# Altium integrated library Linear Technology Power Management Switching Regulator LTC1174-LTC3901.IntLib: 2647 symbols (part 110 of 364)
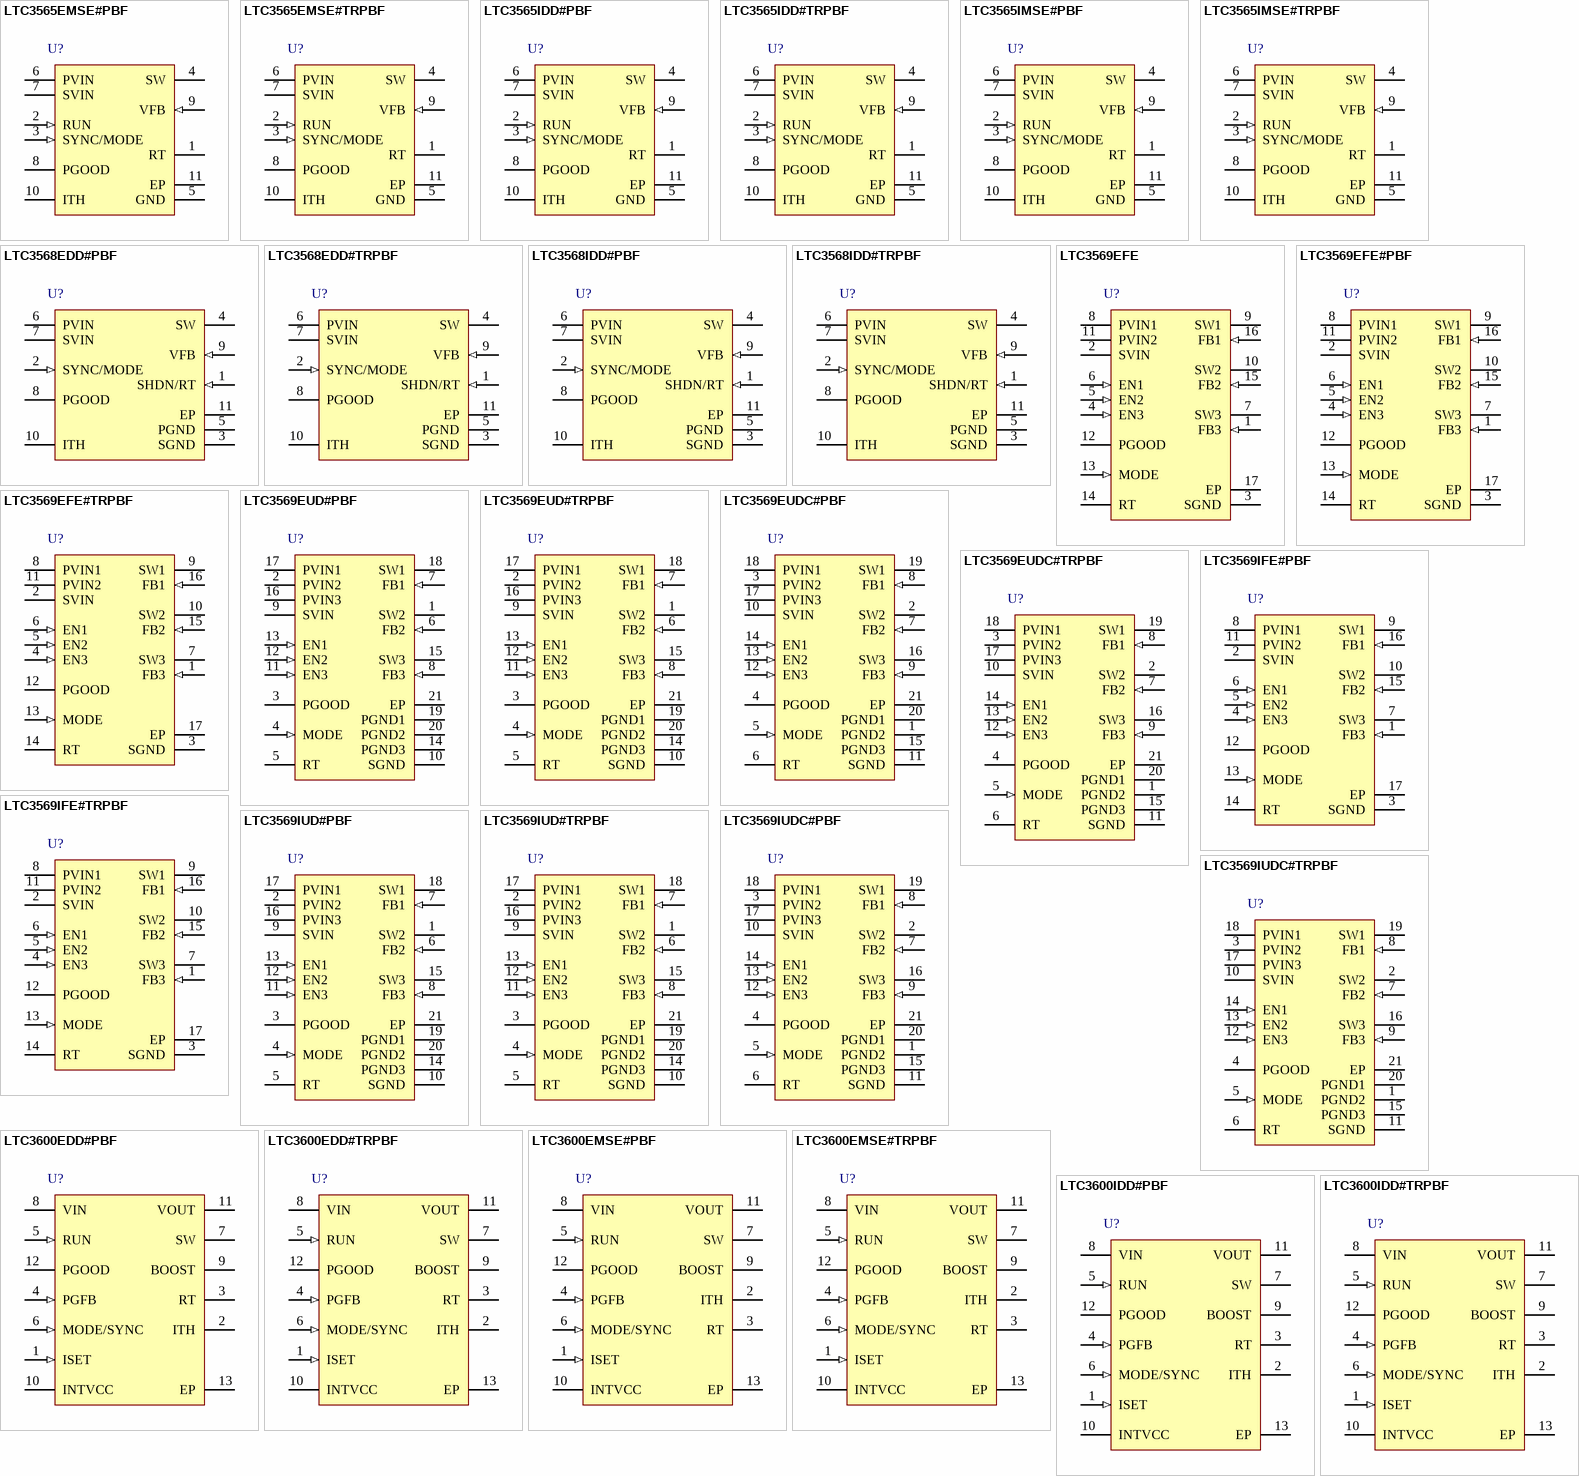
[diagram p171: symbols LTC3565EMSE#PBF to LTC3600IDD#TRPBF]

## LTC3569IUD#TRPBF
designator U?
Triple Buck Regulator with 1.2 A and Two 600 mA Outputs and Individual Programmable References, 20-pin QFN (UD-20), -40 to 125 degC, Pb-Free, Tape and Reel; Manufacturer: Linear Technology; PartNumber: LTC3569IUD#TRPBF; Frequency Adjust Range: 1MHz - 3MHz; Number of Outputs: 3; DatasheetVersion: Rev. D; PackageVersion: Rev. A, 06/2010; PackageReference: UD-20; PackageDescription: 20-Pin Plastic QFN, Body 3 x 3 mm, Pitch 0.4 mm; Supplier 1: Digi-Key; Supplier Part Number 1: LTC3569IUD#TRPBF-ND; Packing: Tape and Reel; RoHS: TRUE; Mounting Technology: Surface Mount; ComponentLink1Description: Manufacturer URL; ComponentLink1URL: http://www.linear.com/; ComponentLink2Description: Datasheet; ComponentLink2URL: http://cds.linear.com/docs/en/datasheet/3569fd.pdf; ComponentLink3Description: Package Specification; ComponentLink3URL: http://cds.linear.com/docs/en/packaging/QFN_20_05-08-1720.pdf
footprint LT-UD-20_N (QFN, 20-Leads, Body 3.1x3.1mm, Pitch 0.4mm, Thermal Pad 1.65x1.65mm, IPC Medium Density)
footprint LT-UD-20_L (QFN, 20-Leads, Body 3.1x3.1mm, Pitch 0.4mm, Thermal Pad 1.65x1.65mm, IPC High Density)
footprint LT-UD-20_M (QFN, 20-Leads, Body 3.1x3.1mm, Pitch 0.4mm, Thermal Pad 1.65x1.65mm, IPC Low Density)
pins: 1 SW2 (power) "Buck 2 Switch. Connect to the Inductor for Buck 2. This pin swings from PVIN2 to PGND2.", 2 PVIN2 (power) "Main Supply Pin for Buck 2. Decouple to PGND2 with a low ESR 4.7uF capacitor, CIN2. Decoupling capacitors should be summed where power supply pins are shared.", 3 PGOOD (oc) "The Power Good Pin. This open-drain output is released when an enabled output has risen to within 8% of the regulation voltage. When multiple outputs are enabled, PGOOD is the logical AND of each internal PGOOD.", 4 MODE (in) "Combination Mode Selection and Oscillator Synchronization Pin. This pin controls the operating mode of the device. When tied to SVIN, Burst Mode operation is selected. When tied to SGND, pulse-skipping mode is selected. The (See Datasheet)", 5 RT "Timing Resistor Pin. The free-running oscillator frequency is programmed by connecting a resistor from this pin to ground. Tie to SVIN to get a fixed 2.25MHz operating frequency.", 6 FB2 (in) "Receives the feedback voltage from the external resistive divider across the output of Buck 2. Nominal voltage for this pin is programmed with the EN2 pin from 800mV down to 425mV. When pulled to SVIN, Buck 2 is put into (See Datasheet)", 7 FB1 (in) "Receives the feedback voltage from the external resistive divider across the output of Buck 1. Nominal voltage for this pin is programmed with the EN1 pin from 800mV down to 425mV.", 8 FB3 (in) "Receives the feedback voltage from the external resistive divider across the output of Buck 3. Nominal voltage for this pin is programmed with the EN3 pin from 800mV down to 425mV. When pulled to SVIN, Buck 3 is put into (See Datasheet)", 9 SVIN (power) "Main Supply Pin. Decouple to SGND with a low ESR 1uF capacitor.", 10 SGND (power) "Main Ground Pin. Decouple to SVIN.", 11 EN3 (in) "Enable Pin for Buck 3. Toggle up to 15 times to program reference feedback level from 800mV down to 425mV", 12 EN2 (in) "Enable Pin for Buck 2. Toggle up to 15 times to program reference feedback level from 800mV down to 425mV.", 13 EN1 (in) "Enable Pin for Buck 1. Toggle up to 15 times to program reference feedback level from 800mV down to 425mV.", 14 PGND3 (power) "Main Power Ground Pin for Buck 3. Connect to the (-) terminal of the output capacitor for Buck3, and (-) terminal of CIN3. Decoupling capacitors should be summed where power supply pins are shared.", 15 SW3 (power) "Buck 3 Switch. Connect to the Inductor for Buck 3. This pin swings from PVIN3 to PGND3.", 16 PVIN3 (power) "Main Supply Pin for Buck 3. Decouple to PGND3 with a low ESR 4.7uF capacitor, CIN3. Decoupling capacitors should be summed where power supply pins are shared.", 17 PVIN1 (power) "Main Supply Pin for Buck 1. Decouple to PGND1 with a low ESR 4.7uF capacitor, CIN1. Decoupling capacitors should be summed where power supply pins are shared.", 18 SW1 (power) "Buck 1 Switch. Connect to the Inductor for Buck 1. This pin swings from PVIN1 to PGND1.", 19 PGND1 (power) "Main Power Ground Pin for Buck 1. Connect to the (-) terminal of the output capacitor for Buck1, and (-) terminal of CIN1. Decoupling capacitors should be summed where power supply pins are shared.", 20 PGND2 (power) "Main Power Ground Pin for Buck 2. Connect to the (-) terminal of the output capacitor for Buck2, and (-) terminal of CIN2. Decoupling capacitors should be summed where power supply pins are shared.", 21 EP (power) "The exposed pad must be connected to PCB ground for rated thermal performance and for electrical connection in the TSSOP package."

## LTC3569IUDC#PBF
designator U?
Triple Buck Regulator with 1.2 A and Two 600 mA Outputs and Individual Programmable References, 20-pin QFN (UDC-20), -40 to 125 degC, Pb-Free; Manufacturer: Linear Technology; PartNumber: LTC3569IUDC#PBF; Frequency Adjust Range: 1MHz - 3MHz; Number of Outputs: 3; DatasheetVersion: Rev. D; PackageVersion: Rev. Ø, 06/2010; PackageReference: UDC20; PackageDescription: 20-Pin Plastic QFN, Body 3 x 4 mm, Pitch 0.5 mm; Supplier 1: Digi-Key; Supplier Part Number 1: LTC3569IUDC#PBF-ND; RoHS: TRUE; Mounting Technology: Surface Mount; ComponentLink1Description: Manufacturer URL; ComponentLink1URL: http://www.linear.com/; ComponentLink2Description: Datasheet; ComponentLink2URL: http://cds.linear.com/docs/en/datasheet/3569fd.pdf; ComponentLink3Description: Package Specification; ComponentLink3URL: http://cds.linear.com/docs/en/packaging/QFN_20_05-08-1742.pdf
footprint LT-UDC-20_N (QFN, 20-Leads, Body 4.1x3.1mm, Pitch 0.5mm, Thermal Pad 2.65x1.65mm, IPC Medium Density)
footprint LT-UDC-20_L (QFN, 20-Leads, Body 4.1x3.1mm, Pitch 0.5mm, Thermal Pad 2.65x1.65mm, IPC High Density)
footprint LT-UDC-20_M (QFN, 20-Leads, Body 4.1x3.1mm, Pitch 0.5mm, Thermal Pad 2.65x1.65mm, IPC Low Density)
pins: 1 PGND2 (power) "Main Power Ground Pin for Buck 2. Connect to the (-) terminal of the output capacitor for Buck2, and (-) terminal of CIN2. Decoupling capacitors should be summed where power supply pins are shared.", 2 SW2 (power) "Buck 2 Switch. Connect to the Inductor for Buck 2. This pin swings from PVIN2 to PGND2.", 3 PVIN2 (power) "Main Supply Pin for Buck 2. Decouple to PGND2 with a low ESR 4.7uF capacitor, CIN2. Decoupling capacitors should be summed where power supply pins are shared.", 4 PGOOD (oc) "The Power Good Pin. This open-drain output is released when an enabled output has risen to within 8% of the regulation voltage. When multiple outputs are enabled, PGOOD is the logical AND of each internal PGOOD.", 5 MODE (in) "Combination Mode Selection and Oscillator Synchronization Pin. This pin controls the operating mode of the device. When tied to SVIN, Burst Mode operation is selected. When tied to SGND, pulse-skipping mode is selected. The (See Datasheet)", 6 RT "Timing Resistor Pin. The free-running oscillator frequency is programmed by connecting a resistor from this pin to ground. Tie to SVIN to get a fixed 2.25MHz operating frequency.", 7 FB2 (in) "Receives the feedback voltage from the external resistive divider across the output of Buck 2. Nominal voltage for this pin is programmed with the EN2 pin from 800mV down to 425mV. When pulled to SVIN, Buck 2 is put into (See Datasheet)", 8 FB1 (in) "Receives the feedback voltage from the external resistive divider across the output of Buck 1. Nominal voltage for this pin is programmed with the EN1 pin from 800mV down to 425mV.", 9 FB3 (in) "Receives the feedback voltage from the external resistive divider across the output of Buck 3. Nominal voltage for this pin is programmed with the EN3 pin from 800mV down to 425mV. When pulled to SVIN, Buck 3 is put into (See Datasheet)", 10 SVIN (power) "Main Supply Pin. Decouple to SGND with a low ESR 1uF capacitor.", 11 SGND (power) "Main Ground Pin. Decouple to SVIN.", 12 EN3 (in) "Enable Pin for Buck 3. Toggle up to 15 times to program reference feedback level from 800mV down to 425mV", 13 EN2 (in) "Enable Pin for Buck 2. Toggle up to 15 times to program reference feedback level from 800mV down to 425mV.", 14 EN1 (in) "Enable Pin for Buck 1. Toggle up to 15 times to program reference feedback level from 800mV down to 425mV.", 15 PGND3 (power) "Main Power Ground Pin for Buck 3. Connect to the (-) terminal of the output capacitor for Buck3, and (-) terminal of CIN3. Decoupling capacitors should be summed where power supply pins are shared.", 16 SW3 (power) "Buck 3 Switch. Connect to the Inductor for Buck 3. This pin swings from PVIN3 to PGND3.", 17 PVIN3 (power) "Main Supply Pin for Buck 3. Decouple to PGND3 with a low ESR 4.7uF capacitor, CIN3. Decoupling capacitors should be summed where power supply pins are shared.", 18 PVIN1 (power) "Main Supply Pin for Buck 1. Decouple to PGND1 with a low ESR 4.7uF capacitor, CIN1. Decoupling capacitors should be summed where power supply pins are shared.", 19 SW1 (power) "Buck 1 Switch. Connect to the Inductor for Buck 1. This pin swings from PVIN1 to PGND1.", 20 PGND1 (power) "Main Power Ground Pin for Buck 1. Connect to the (-) terminal of the output capacitor for Buck1, and (-) terminal of CIN1. Decoupling capacitors should be summed where power supply pins are shared.", 21 EP (power) "The exposed pad must be connected to PCB ground for rated thermal performance and for electrical connection in the TSSOP package."

## LTC3569IUDC#TRPBF
designator U?
Triple Buck Regulator with 1.2 A and Two 600 mA Outputs and Individual Programmable References, 20-pin QFN (UDC-20), -40 to 125 degC, Pb-Free, Tape and Reel; Manufacturer: Linear Technology; PartNumber: LTC3569IUDC#TRPBF; Frequency Adjust Range: 1MHz - 3MHz; Number of Outputs: 3; DatasheetVersion: Rev. D; PackageVersion: Rev. Ø, 06/2010; PackageReference: UDC20; PackageDescription: 20-Pin Plastic QFN, Body 3 x 4 mm, Pitch 0.5 mm; Supplier 1: Digi-Key; Supplier Part Number 1: LTC3569IUDC#TRPBF-ND; Packing: Tape and Reel; RoHS: TRUE; Mounting Technology: Surface Mount; ComponentLink1Description: Manufacturer URL; ComponentLink1URL: http://www.linear.com/; ComponentLink2Description: Datasheet; ComponentLink2URL: http://cds.linear.com/docs/en/datasheet/3569fd.pdf; ComponentLink3Description: Package Specification; ComponentLink3URL: http://cds.linear.com/docs/en/packaging/QFN_20_05-08-1742.pdf
footprint LT-UDC-20_N (QFN, 20-Leads, Body 4.1x3.1mm, Pitch 0.5mm, Thermal Pad 2.65x1.65mm, IPC Medium Density)
footprint LT-UDC-20_L (QFN, 20-Leads, Body 4.1x3.1mm, Pitch 0.5mm, Thermal Pad 2.65x1.65mm, IPC High Density)
footprint LT-UDC-20_M (QFN, 20-Leads, Body 4.1x3.1mm, Pitch 0.5mm, Thermal Pad 2.65x1.65mm, IPC Low Density)
pins: 1 PGND2 (power) "Main Power Ground Pin for Buck 2. Connect to the (-) terminal of the output capacitor for Buck2, and (-) terminal of CIN2. Decoupling capacitors should be summed where power supply pins are shared.", 2 SW2 (power) "Buck 2 Switch. Connect to the Inductor for Buck 2. This pin swings from PVIN2 to PGND2.", 3 PVIN2 (power) "Main Supply Pin for Buck 2. Decouple to PGND2 with a low ESR 4.7uF capacitor, CIN2. Decoupling capacitors should be summed where power supply pins are shared.", 4 PGOOD (oc) "The Power Good Pin. This open-drain output is released when an enabled output has risen to within 8% of the regulation voltage. When multiple outputs are enabled, PGOOD is the logical AND of each internal PGOOD.", 5 MODE (in) "Combination Mode Selection and Oscillator Synchronization Pin. This pin controls the operating mode of the device. When tied to SVIN, Burst Mode operation is selected. When tied to SGND, pulse-skipping mode is selected. The (See Datasheet)", 6 RT "Timing Resistor Pin. The free-running oscillator frequency is programmed by connecting a resistor from this pin to ground. Tie to SVIN to get a fixed 2.25MHz operating frequency.", 7 FB2 (in) "Receives the feedback voltage from the external resistive divider across the output of Buck 2. Nominal voltage for this pin is programmed with the EN2 pin from 800mV down to 425mV. When pulled to SVIN, Buck 2 is put into (See Datasheet)", 8 FB1 (in) "Receives the feedback voltage from the external resistive divider across the output of Buck 1. Nominal voltage for this pin is programmed with the EN1 pin from 800mV down to 425mV.", 9 FB3 (in) "Receives the feedback voltage from the external resistive divider across the output of Buck 3. Nominal voltage for this pin is programmed with the EN3 pin from 800mV down to 425mV. When pulled to SVIN, Buck 3 is put into (See Datasheet)", 10 SVIN (power) "Main Supply Pin. Decouple to SGND with a low ESR 1uF capacitor.", 11 SGND (power) "Main Ground Pin. Decouple to SVIN.", 12 EN3 (in) "Enable Pin for Buck 3. Toggle up to 15 times to program reference feedback level from 800mV down to 425mV", 13 EN2 (in) "Enable Pin for Buck 2. Toggle up to 15 times to program reference feedback level from 800mV down to 425mV.", 14 EN1 (in) "Enable Pin for Buck 1. Toggle up to 15 times to program reference feedback level from 800mV down to 425mV.", 15 PGND3 (power) "Main Power Ground Pin for Buck 3. Connect to the (-) terminal of the output capacitor for Buck3, and (-) terminal of CIN3. Decoupling capacitors should be summed where power supply pins are shared.", 16 SW3 (power) "Buck 3 Switch. Connect to the Inductor for Buck 3. This pin swings from PVIN3 to PGND3.", 17 PVIN3 (power) "Main Supply Pin for Buck 3. Decouple to PGND3 with a low ESR 4.7uF capacitor, CIN3. Decoupling capacitors should be summed where power supply pins are shared.", 18 PVIN1 (power) "Main Supply Pin for Buck 1. Decouple to PGND1 with a low ESR 4.7uF capacitor, CIN1. Decoupling capacitors should be summed where power supply pins are shared.", 19 SW1 (power) "Buck 1 Switch. Connect to the Inductor for Buck 1. This pin swings from PVIN1 to PGND1.", 20 PGND1 (power) "Main Power Ground Pin for Buck 1. Connect to the (-) terminal of the output capacitor for Buck1, and (-) terminal of CIN1. Decoupling capacitors should be summed where power supply pins are shared.", 21 EP (power) "The exposed pad must be connected to PCB ground for rated thermal performance and for electrical connection in the TSSOP package."

## LTC3600EDD#PBF
designator U?
1.5 A Synchronous Rail-to-Rail Single Resistor Step-Down Regulator, 12-pin SON (DD-12), -40 to 125 degC, Pb-Free; Manufacturer: Linear Technology; PartNumber: LTC3600EDD#PBF; Frequency Adjust Range: 200kHz - 4MHz; Number of Outputs: 1; DatasheetVersion: Rev. C; PackageVersion: Rev. A, 06/2010; PackageReference: DD-12; PackageDescription: 12-Pin Plastic DFN, Body 3 x 3 mm, Pitch 0.45 mm; Supplier 1: Digi-Key; Supplier Part Number 1: LTC3600EDD#PBF-ND; Supplier 2: Newark; Supplier Part Number 2: 78T3222; RoHS: TRUE; Mounting Technology: Surface Mount; ComponentLink1Description: Manufacturer URL; ComponentLink1URL: http://www.linear.com/; ComponentLink2Description: Datasheet; ComponentLink2URL: http://cds.linear.com/docs/en/datasheet/3600fc.pdf; ComponentLink3Description: Package Specification; ComponentLink3URL: http://cds.linear.com/docs/en/packaging/DFN_12_05-08-1725.pdf
footprint LT-DD-12_V (SON, 12-Leads, Body 3x3mm, Pitch 0.45mm, Thermal Pad 2.38x1.65mm)
pins: 1 ISET (in) "Accurate 50uA Current Source. Positive input to the error amplifier. Connect an external resistor from this pin to signal GND to program the VOUT voltage. Connecting an external capacitor from ISET to ground will soft start (See Datasheet)", 2 ITH "Error Amplifier Output and Switching Regulator Compensation Point. The internal current comparator’s trip threshold is linearly proportional to this voltage, whose normal range is from 0.3V to 2.4V. For externa(See Datasheet)", 3 RT "Switching Frequency Programming Pin. Connect an external resistor (between 200k to 10k) from RT to SGND to program the frequency from 200kHz to 4MHz. Tying the RT pin to INTVCC programs 1MHz operation. Do not float the RT (See Datasheet)", 4 PGFB (in) "Power Good Feedback. Place a resistor divider on VOUT to detect power good level. If PGFB is more than 0.645V, or less than 0.555V, PGOOD will be pulled down. Tie PGFB to INTVCC to disable the PGOOD function. Tying PGFB to a (See Datasheet)", 5 RUN (in) "Run Control Input. Enables chip operation by tying RUN above 1.55V. Tying it below 1V shuts down the switching regulator. Tying it below 0.4V shuts off the entire chip. When tying RUN to more than 12V, place a resistor (100k (See Datasheet)", 6 MODE/SYNC (in) "Operation Mode Select. Tie this pin to INTVCC to force continuous synchronous operation at all output loads. Tying it to GND enables discontinuous mode operation at light loads. Applying an external clock signal to this pin (See Datasheet)", 7 SW (power) "Switch Node Connection to External Inductor. Voltage swing of SW is from a diode voltage drop below ground to VIN.", 8 VIN (power) "Input voltage. Must decouple to GND with a capacitor close to the VIN pin.", 9 BOOST "Boosted Floating Driver Supply for Internal Top Power MOSFET. The (+) terminal of the bootstrap capacitor connects here. This pin swings from a diode voltage drop below INTVCC up to VIN + INTVCC.", 10 INTVCC (power) "Internal 5V Regulator Output. The internal power drivers and control circuits are powered from this voltage. Decouple this pin to GND with a minimum of 1uF low ESR ceramic capacitor.", 11 VOUT (power) "Output Voltage Pin. Output of the LTC3600 voltage regulator. Also the negative input of the error amplifier which is driven to be the same voltage as ISET.", 12 PGOOD (oc) "Output Power Good with Open-Drain Logic. PGOOD is pulled to ground when the PGFB pin is more than 0.645V or less than 0.555V. PGOOD open-drain logic will be disabled if PGFB is tied to INTVCC.", 13 EP (power) "Ground. Return path of internal power MOSFETs. Connect the exposed pad to the negative terminal of the input capacitor and output capacitor."

## LTC3600EDD#TRPBF
designator U?
1.5 A Synchronous Rail-to-Rail Single Resistor Step-Down Regulator, 12-pin SON (DD-12), -40 to 125 degC, Pb-Free, Tape and Reel; Manufacturer: Linear Technology; PartNumber: LTC3600EDD#TRPBF; Frequency Adjust Range: 200kHz - 4MHz; Number of Outputs: 1; DatasheetVersion: Rev. C; PackageVersion: Rev. A, 06/2010; PackageReference: DD-12; PackageDescription: 12-Pin Plastic DFN, Body 3 x 3 mm, Pitch 0.45 mm; Supplier 1: Digi-Key; Supplier Part Number 1: LTC3600EDD#TRPBF-ND; Supplier 2: Newark; Supplier Part Number 2: 78T3223; Packing: Tape and Reel; RoHS: TRUE; Mounting Technology: Surface Mount; ComponentLink1Description: Manufacturer URL; ComponentLink1URL: http://www.linear.com/; ComponentLink2Description: Datasheet; ComponentLink2URL: http://cds.linear.com/docs/en/datasheet/3600fc.pdf; ComponentLink3Description: Package Specification; ComponentLink3URL: http://cds.linear.com/docs/en/packaging/DFN_12_05-08-1725.pdf
footprint LT-DD-12_V (SON, 12-Leads, Body 3x3mm, Pitch 0.45mm, Thermal Pad 2.38x1.65mm)
pins: 1 ISET (in) "Accurate 50uA Current Source. Positive input to the error amplifier. Connect an external resistor from this pin to signal GND to program the VOUT voltage. Connecting an external capacitor from ISET to ground will soft start (See Datasheet)", 2 ITH "Error Amplifier Output and Switching Regulator Compensation Point. The internal current comparator’s trip threshold is linearly proportional to this voltage, whose normal range is from 0.3V to 2.4V. For externa(See Datasheet)", 3 RT "Switching Frequency Programming Pin. Connect an external resistor (between 200k to 10k) from RT to SGND to program the frequency from 200kHz to 4MHz. Tying the RT pin to INTVCC programs 1MHz operation. Do not float the RT (See Datasheet)", 4 PGFB (in) "Power Good Feedback. Place a resistor divider on VOUT to detect power good level. If PGFB is more than 0.645V, or less than 0.555V, PGOOD will be pulled down. Tie PGFB to INTVCC to disable the PGOOD function. Tying PGFB to a (See Datasheet)", 5 RUN (in) "Run Control Input. Enables chip operation by tying RUN above 1.55V. Tying it below 1V shuts down the switching regulator. Tying it below 0.4V shuts off the entire chip. When tying RUN to more than 12V, place a resistor (100k (See Datasheet)", 6 MODE/SYNC (in) "Operation Mode Select. Tie this pin to INTVCC to force continuous synchronous operation at all output loads. Tying it to GND enables discontinuous mode operation at light loads. Applying an external clock signal to this pin (See Datasheet)", 7 SW (power) "Switch Node Connection to External Inductor. Voltage swing of SW is from a diode voltage drop below ground to VIN.", 8 VIN (power) "Input voltage. Must decouple to GND with a capacitor close to the VIN pin.", 9 BOOST "Boosted Floating Driver Supply for Internal Top Power MOSFET. The (+) terminal of the bootstrap capacitor connects here. This pin swings from a diode voltage drop below INTVCC up to VIN + INTVCC.", 10 INTVCC (power) "Internal 5V Regulator Output. The internal power drivers and control circuits are powered from this voltage. Decouple this pin to GND with a minimum of 1uF low ESR ceramic capacitor.", 11 VOUT (power) "Output Voltage Pin. Output of the LTC3600 voltage regulator. Also the negative input of the error amplifier which is driven to be the same voltage as ISET.", 12 PGOOD (oc) "Output Power Good with Open-Drain Logic. PGOOD is pulled to ground when the PGFB pin is more than 0.645V or less than 0.555V. PGOOD open-drain logic will be disabled if PGFB is tied to INTVCC.", 13 EP (power) "Ground. Return path of internal power MOSFETs. Connect the exposed pad to the negative terminal of the input capacitor and output capacitor."

## LTC3600EMSE#PBF
designator U?
1.5 A Synchronous Rail-to-Rail Single Resistor Step-Down Regulator, 12-pin SOP (MSE-12-EDP), -40 to 125 degC, Pb-Free; Manufacturer: Linear Technology; PartNumber: LTC3600EMSE#PBF; Frequency Adjust Range: 200kHz - 4MHz; Number of Outputs: 1; DatasheetVersion: Rev. C; PackageVersion: Rev. G, 05/2013; PackageReference: MSE-12-EDP; PackageDescription: 12-Pin Plastic MSOP, Exposed Die Pad, Body 4.039 x 3 mm, Pitch 0.65 mm; Supplier 1: Digi-Key; Supplier Part Number 1: LTC3600EMSE#PBF-ND; Supplier 2: Farnell; Supplier Part Number 2: 2097890; Supplier 3: Newark; Supplier Part Number 3: 78T3224; RoHS: TRUE; Mounting Technology: Surface Mount; ComponentLink1Description: Manufacturer URL; ComponentLink1URL: http://www.linear.com/; ComponentLink2Description: Datasheet; ComponentLink2URL: http://cds.linear.com/docs/en/datasheet/3600fc.pdf; ComponentLink3Description: Package Specification; ComponentLink3URL: http://cds.linear.com/docs/en/packaging/05081666_G_MSE12.pdf
footprint LT-MSE-12-EDP_N (SOP, 12-Leads, Body 4.1x3.1mm, Pitch 0.65mm, Thermal Pad 2.95x1.76mm, IPC Medium Density)
footprint LT-MSE-12-EDP_L (SOP, 12-Leads, Body 4.1x3.1mm, Pitch 0.65mm, Thermal Pad 2.95x1.76mm, IPC High Density)
footprint LT-MSE-12-EDP_M (SOP, 12-Leads, Body 4.1x3.1mm, Pitch 0.65mm, Thermal Pad 2.95x1.76mm, IPC Low Density)
pins: 1 ISET (in) "Accurate 50uA Current Source. Positive input to the error amplifier. Connect an external resistor from this pin to signal GND to program the VOUT voltage. Connecting an external capacitor from ISET to ground will soft start (See Datasheet)", 2 ITH "Error Amplifier Output and Switching Regulator Compensation Point. The internal current comparator’s trip threshold is linearly proportional to this voltage, whose normal range is from 0.3V to 2.4V. For externa(See Datasheet)", 3 RT "Switching Frequency Programming Pin. Connect an external resistor (between 200k to 10k) from RT to SGND to program the frequency from 200kHz to 4MHz. Tying the RT pin to INTVCC programs 1MHz operation. Do not float the RT (See Datasheet)", 4 PGFB (in) "Power Good Feedback. Place a resistor divider on VOUT to detect power good level. If PGFB is more than 0.645V, or less than 0.555V, PGOOD will be pulled down. Tie PGFB to INTVCC to disable the PGOOD function. Tying PGFB to a (See Datasheet)", 5 RUN (in) "Run Control Input. Enables chip operation by tying RUN above 1.55V. Tying it below 1V shuts down the switching regulator. Tying it below 0.4V shuts off the entire chip. When tying RUN to more than 12V, place a resistor (100k (See Datasheet)", 6 MODE/SYNC (in) "Operation Mode Select. Tie this pin to INTVCC to force continuous synchronous operation at all output loads. Tying it to GND enables discontinuous mode operation at light loads. Applying an external clock signal to this pin (See Datasheet)", 7 SW (power) "Switch Node Connection to External Inductor. Voltage swing of SW is from a diode voltage drop below ground to VIN.", 8 VIN (power) "Input voltage. Must decouple to GND with a capacitor close to the VIN pin.", 9 BOOST "Boosted Floating Driver Supply for Internal Top Power MOSFET. The (+) terminal of the bootstrap capacitor connects here. This pin swings from a diode voltage drop below INTVCC up to VIN + INTVCC.", 10 INTVCC (power) "Internal 5V Regulator Output. The internal power drivers and control circuits are powered from this voltage. Decouple this pin to GND with a minimum of 1uF low ESR ceramic capacitor.", 11 VOUT (power) "Output Voltage Pin. Output of the LTC3600 voltage regulator. Also the negative input of the error amplifier which is driven to be the same voltage as ISET.", 12 PGOOD (oc) "Output Power Good with Open-Drain Logic. PGOOD is pulled to ground when the PGFB pin is more than 0.645V or less than 0.555V. PGOOD open-drain logic will be disabled if PGFB is tied to INTVCC.", 13 EP (power) "Ground. Return path of internal power MOSFETs. Connect the exposed pad to the negative terminal of the input capacitor and output capacitor."

## LTC3600EMSE#TRPBF
designator U?
1.5 A Synchronous Rail-to-Rail Single Resistor Step-Down Regulator, 12-pin SOP (MSE-12-EDP), -40 to 125 degC, Pb-Free, Tape and Reel; Manufacturer: Linear Technology; PartNumber: LTC3600EMSE#TRPBF; Frequency Adjust Range: 200kHz - 4MHz; Number of Outputs: 1; DatasheetVersion: Rev. C; PackageVersion: Rev. G, 05/2013; PackageReference: MSE-12-EDP; PackageDescription: 12-Pin Plastic MSOP, Exposed Die Pad, Body 4.039 x 3 mm, Pitch 0.65 mm; Supplier 1: Digi-Key; Supplier Part Number 1: LTC3600EMSE#TRPBF-ND; Packing: Tape and Reel; RoHS: TRUE; Mounting Technology: Surface Mount; ComponentLink1Description: Manufacturer URL; ComponentLink1URL: http://www.linear.com/; ComponentLink2Description: Datasheet; ComponentLink2URL: http://cds.linear.com/docs/en/datasheet/3600fc.pdf; ComponentLink3Description: Package Specification; ComponentLink3URL: http://cds.linear.com/docs/en/packaging/05081666_G_MSE12.pdf
footprint LT-MSE-12-EDP_N (SOP, 12-Leads, Body 4.1x3.1mm, Pitch 0.65mm, Thermal Pad 2.95x1.76mm, IPC Medium Density)
footprint LT-MSE-12-EDP_L (SOP, 12-Leads, Body 4.1x3.1mm, Pitch 0.65mm, Thermal Pad 2.95x1.76mm, IPC High Density)
footprint LT-MSE-12-EDP_M (SOP, 12-Leads, Body 4.1x3.1mm, Pitch 0.65mm, Thermal Pad 2.95x1.76mm, IPC Low Density)
pins: 1 ISET (in) "Accurate 50uA Current Source. Positive input to the error amplifier. Connect an external resistor from this pin to signal GND to program the VOUT voltage. Connecting an external capacitor from ISET to ground will soft start (See Datasheet)", 2 ITH "Error Amplifier Output and Switching Regulator Compensation Point. The internal current comparator’s trip threshold is linearly proportional to this voltage, whose normal range is from 0.3V to 2.4V. For externa(See Datasheet)", 3 RT "Switching Frequency Programming Pin. Connect an external resistor (between 200k to 10k) from RT to SGND to program the frequency from 200kHz to 4MHz. Tying the RT pin to INTVCC programs 1MHz operation. Do not float the RT (See Datasheet)", 4 PGFB (in) "Power Good Feedback. Place a resistor divider on VOUT to detect power good level. If PGFB is more than 0.645V, or less than 0.555V, PGOOD will be pulled down. Tie PGFB to INTVCC to disable the PGOOD function. Tying PGFB to a (See Datasheet)", 5 RUN (in) "Run Control Input. Enables chip operation by tying RUN above 1.55V. Tying it below 1V shuts down the switching regulator. Tying it below 0.4V shuts off the entire chip. When tying RUN to more than 12V, place a resistor (100k (See Datasheet)", 6 MODE/SYNC (in) "Operation Mode Select. Tie this pin to INTVCC to force continuous synchronous operation at all output loads. Tying it to GND enables discontinuous mode operation at light loads. Applying an external clock signal to this pin (See Datasheet)", 7 SW (power) "Switch Node Connection to External Inductor. Voltage swing of SW is from a diode voltage drop below ground to VIN.", 8 VIN (power) "Input voltage. Must decouple to GND with a capacitor close to the VIN pin.", 9 BOOST "Boosted Floating Driver Supply for Internal Top Power MOSFET. The (+) terminal of the bootstrap capacitor connects here. This pin swings from a diode voltage drop below INTVCC up to VIN + INTVCC.", 10 INTVCC (power) "Internal 5V Regulator Output. The internal power drivers and control circuits are powered from this voltage. Decouple this pin to GND with a minimum of 1uF low ESR ceramic capacitor.", 11 VOUT (power) "Output Voltage Pin. Output of the LTC3600 voltage regulator. Also the negative input of the error amplifier which is driven to be the same voltage as ISET.", 12 PGOOD (oc) "Output Power Good with Open-Drain Logic. PGOOD is pulled to ground when the PGFB pin is more than 0.645V or less than 0.555V. PGOOD open-drain logic will be disabled if PGFB is tied to INTVCC.", 13 EP (power) "Ground. Return path of internal power MOSFETs. Connect the exposed pad to the negative terminal of the input capacitor and output capacitor."

## LTC3600IDD#PBF
designator U?
1.5 A Synchronous Rail-to-Rail Single Resistor Step-Down Regulator, 12-pin SON (DD-12), -40 to 125 degC, Pb-Free; Manufacturer: Linear Technology; PartNumber: LTC3600IDD#PBF; Frequency Adjust Range: 200kHz - 4MHz; Number of Outputs: 1; DatasheetVersion: Rev. C; PackageVersion: Rev. A, 06/2010; PackageReference: DD-12; PackageDescription: 12-Pin Plastic DFN, Body 3 x 3 mm, Pitch 0.45 mm; Supplier 1: Digi-Key; Supplier Part Number 1: LTC3600IDD#PBF-ND; Supplier 2: Farnell; Supplier Part Number 2: 2097889; Supplier 3: Newark; Supplier Part Number 3: 78T3226; RoHS: TRUE; Mounting Technology: Surface Mount; ComponentLink1Description: Manufacturer URL; ComponentLink1URL: http://www.linear.com/; ComponentLink2Description: Datasheet; ComponentLink2URL: http://cds.linear.com/docs/en/datasheet/3600fc.pdf; ComponentLink3Description: Package Specification; ComponentLink3URL: http://cds.linear.com/docs/en/packaging/DFN_12_05-08-1725.pdf
footprint LT-DD-12_V (SON, 12-Leads, Body 3x3mm, Pitch 0.45mm, Thermal Pad 2.38x1.65mm)
pins: 1 ISET (in) "Accurate 50uA Current Source. Positive input to the error amplifier. Connect an external resistor from this pin to signal GND to program the VOUT voltage. Connecting an external capacitor from ISET to ground will soft start (See Datasheet)", 2 ITH "Error Amplifier Output and Switching Regulator Compensation Point. The internal current comparator’s trip threshold is linearly proportional to this voltage, whose normal range is from 0.3V to 2.4V. For externa(See Datasheet)", 3 RT "Switching Frequency Programming Pin. Connect an external resistor (between 200k to 10k) from RT to SGND to program the frequency from 200kHz to 4MHz. Tying the RT pin to INTVCC programs 1MHz operation. Do not float the RT (See Datasheet)", 4 PGFB (in) "Power Good Feedback. Place a resistor divider on VOUT to detect power good level. If PGFB is more than 0.645V, or less than 0.555V, PGOOD will be pulled down. Tie PGFB to INTVCC to disable the PGOOD function. Tying PGFB to a (See Datasheet)", 5 RUN (in) "Run Control Input. Enables chip operation by tying RUN above 1.55V. Tying it below 1V shuts down the switching regulator. Tying it below 0.4V shuts off the entire chip. When tying RUN to more than 12V, place a resistor (100k (See Datasheet)", 6 MODE/SYNC (in) "Operation Mode Select. Tie this pin to INTVCC to force continuous synchronous operation at all output loads. Tying it to GND enables discontinuous mode operation at light loads. Applying an external clock signal to this pin (See Datasheet)", 7 SW (power) "Switch Node Connection to External Inductor. Voltage swing of SW is from a diode voltage drop below ground to VIN.", 8 VIN (power) "Input voltage. Must decouple to GND with a capacitor close to the VIN pin.", 9 BOOST "Boosted Floating Driver Supply for Internal Top Power MOSFET. The (+) terminal of the bootstrap capacitor connects here. This pin swings from a diode voltage drop below INTVCC up to VIN + INTVCC.", 10 INTVCC (power) "Internal 5V Regulator Output. The internal power drivers and control circuits are powered from this voltage. Decouple this pin to GND with a minimum of 1uF low ESR ceramic capacitor.", 11 VOUT (power) "Output Voltage Pin. Output of the LTC3600 voltage regulator. Also the negative input of the error amplifier which is driven to be the same voltage as ISET.", 12 PGOOD (oc) "Output Power Good with Open-Drain Logic. PGOOD is pulled to ground when the PGFB pin is more than 0.645V or less than 0.555V. PGOOD open-drain logic will be disabled if PGFB is tied to INTVCC.", 13 EP (power) "Ground. Return path of internal power MOSFETs. Connect the exposed pad to the negative terminal of the input capacitor and output capacitor."

## LTC3600IDD#TRPBF
designator U?
1.5 A Synchronous Rail-to-Rail Single Resistor Step-Down Regulator, 12-pin SON (DD-12), -40 to 125 degC, Pb-Free, Tape and Reel; Manufacturer: Linear Technology; PartNumber: LTC3600IDD#TRPBF; Frequency Adjust Range: 200kHz - 4MHz; Number of Outputs: 1; DatasheetVersion: Rev. C; PackageVersion: Rev. A, 06/2010; PackageReference: DD-12; PackageDescription: 12-Pin Plastic DFN, Body 3 x 3 mm, Pitch 0.45 mm; Supplier 1: Digi-Key; Supplier Part Number 1: LTC3600IDD#TRPBF-ND; Packing: Tape and Reel; RoHS: TRUE; Mounting Technology: Surface Mount; ComponentLink1Description: Manufacturer URL; ComponentLink1URL: http://www.linear.com/; ComponentLink2Description: Datasheet; ComponentLink2URL: http://cds.linear.com/docs/en/datasheet/3600fc.pdf; ComponentLink3Description: Package Specification; ComponentLink3URL: http://cds.linear.com/docs/en/packaging/DFN_12_05-08-1725.pdf
footprint LT-DD-12_V (SON, 12-Leads, Body 3x3mm, Pitch 0.45mm, Thermal Pad 2.38x1.65mm)
pins: 1 ISET (in) "Accurate 50uA Current Source. Positive input to the error amplifier. Connect an external resistor from this pin to signal GND to program the VOUT voltage. Connecting an external capacitor from ISET to ground will soft start (See Datasheet)", 2 ITH "Error Amplifier Output and Switching Regulator Compensation Point. The internal current comparator’s trip threshold is linearly proportional to this voltage, whose normal range is from 0.3V to 2.4V. For externa(See Datasheet)", 3 RT "Switching Frequency Programming Pin. Connect an external resistor (between 200k to 10k) from RT to SGND to program the frequency from 200kHz to 4MHz. Tying the RT pin to INTVCC programs 1MHz operation. Do not float the RT (See Datasheet)", 4 PGFB (in) "Power Good Feedback. Place a resistor divider on VOUT to detect power good level. If PGFB is more than 0.645V, or less than 0.555V, PGOOD will be pulled down. Tie PGFB to INTVCC to disable the PGOOD function. Tying PGFB to a (See Datasheet)", 5 RUN (in) "Run Control Input. Enables chip operation by tying RUN above 1.55V. Tying it below 1V shuts down the switching regulator. Tying it below 0.4V shuts off the entire chip. When tying RUN to more than 12V, place a resistor (100k (See Datasheet)", 6 MODE/SYNC (in) "Operation Mode Select. Tie this pin to INTVCC to force continuous synchronous operation at all output loads. Tying it to GND enables discontinuous mode operation at light loads. Applying an external clock signal to this pin (See Datasheet)", 7 SW (power) "Switch Node Connection to External Inductor. Voltage swing of SW is from a diode voltage drop below ground to VIN.", 8 VIN (power) "Input voltage. Must decouple to GND with a capacitor close to the VIN pin.", 9 BOOST "Boosted Floating Driver Supply for Internal Top Power MOSFET. The (+) terminal of the bootstrap capacitor connects here. This pin swings from a diode voltage drop below INTVCC up to VIN + INTVCC.", 10 INTVCC (power) "Internal 5V Regulator Output. The internal power drivers and control circuits are powered from this voltage. Decouple this pin to GND with a minimum of 1uF low ESR ceramic capacitor.", 11 VOUT (power) "Output Voltage Pin. Output of the LTC3600 voltage regulator. Also the negative input of the error amplifier which is driven to be the same voltage as ISET.", 12 PGOOD (oc) "Output Power Good with Open-Drain Logic. PGOOD is pulled to ground when the PGFB pin is more than 0.645V or less than 0.555V. PGOOD open-drain logic will be disabled if PGFB is tied to INTVCC.", 13 EP (power) "Ground. Return path of internal power MOSFETs. Connect the exposed pad to the negative terminal of the input capacitor and output capacitor."

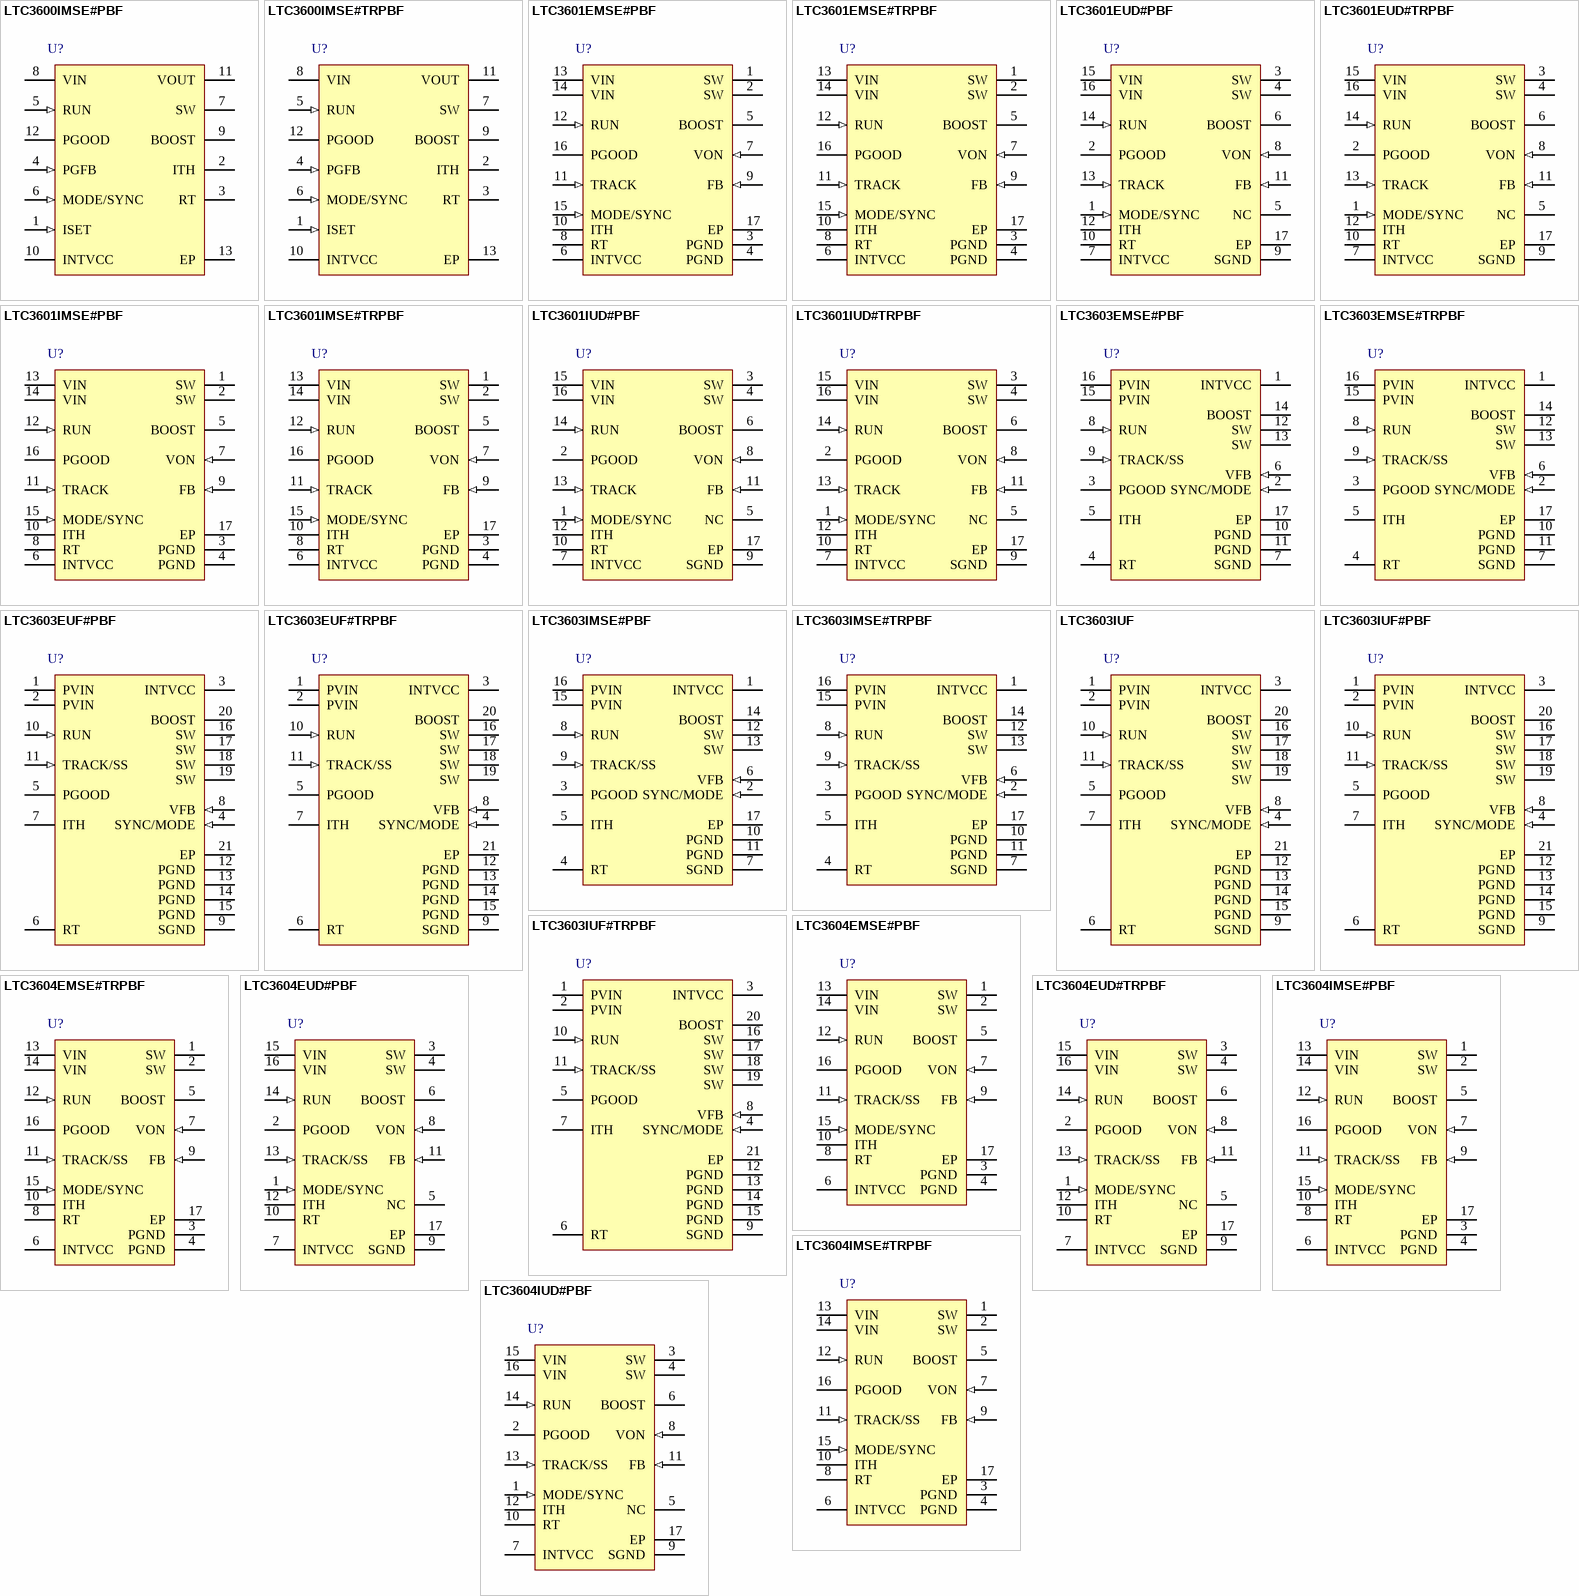
[diagram p36: symbols LTC3600IMSE#PBF to LTC3604IUD#PBF]

## LTC3600IMSE#PBF
designator U?
1.5 A Synchronous Rail-to-Rail Single Resistor Step-Down Regulator, 12-pin SOP (MSE-12-EDP), -40 to 125 degC, Pb-Free; Manufacturer: Linear Technology; PartNumber: LTC3600IMSE#PBF; Frequency Adjust Range: 200kHz - 4MHz; Number of Outputs: 1; DatasheetVersion: Rev. C; PackageVersion: Rev. G, 05/2013; PackageReference: MSE-12-EDP; PackageDescription: 12-Pin Plastic MSOP, Exposed Die Pad, Body 4.039 x 3 mm, Pitch 0.65 mm; Supplier 1: Digi-Key; Supplier Part Number 1: LTC3600IMSE#PBF-ND; Supplier 2: Farnell; Supplier Part Number 2: 2095781; Supplier 3: Newark; Supplier Part Number 3: 78T3228; RoHS: TRUE; Mounting Technology: Surface Mount; ComponentLink1Description: Manufacturer URL; ComponentLink1URL: http://www.linear.com/; ComponentLink2Description: Datasheet; ComponentLink2URL: http://cds.linear.com/docs/en/datasheet/3600fc.pdf; ComponentLink3Description: Package Specification; ComponentLink3URL: http://cds.linear.com/docs/en/packaging/05081666_G_MSE12.pdf
footprint LT-MSE-12-EDP_N (SOP, 12-Leads, Body 4.1x3.1mm, Pitch 0.65mm, Thermal Pad 2.95x1.76mm, IPC Medium Density)
footprint LT-MSE-12-EDP_L (SOP, 12-Leads, Body 4.1x3.1mm, Pitch 0.65mm, Thermal Pad 2.95x1.76mm, IPC High Density)
footprint LT-MSE-12-EDP_M (SOP, 12-Leads, Body 4.1x3.1mm, Pitch 0.65mm, Thermal Pad 2.95x1.76mm, IPC Low Density)
pins: 1 ISET (in) "Accurate 50uA Current Source. Positive input to the error amplifier. Connect an external resistor from this pin to signal GND to program the VOUT voltage. Connecting an external capacitor from ISET to ground will soft start (See Datasheet)", 2 ITH "Error Amplifier Output and Switching Regulator Compensation Point. The internal current comparator’s trip threshold is linearly proportional to this voltage, whose normal range is from 0.3V to 2.4V. For externa(See Datasheet)", 3 RT "Switching Frequency Programming Pin. Connect an external resistor (between 200k to 10k) from RT to SGND to program the frequency from 200kHz to 4MHz. Tying the RT pin to INTVCC programs 1MHz operation. Do not float the RT (See Datasheet)", 4 PGFB (in) "Power Good Feedback. Place a resistor divider on VOUT to detect power good level. If PGFB is more than 0.645V, or less than 0.555V, PGOOD will be pulled down. Tie PGFB to INTVCC to disable the PGOOD function. Tying PGFB to a (See Datasheet)", 5 RUN (in) "Run Control Input. Enables chip operation by tying RUN above 1.55V. Tying it below 1V shuts down the switching regulator. Tying it below 0.4V shuts off the entire chip. When tying RUN to more than 12V, place a resistor (100k (See Datasheet)", 6 MODE/SYNC (in) "Operation Mode Select. Tie this pin to INTVCC to force continuous synchronous operation at all output loads. Tying it to GND enables discontinuous mode operation at light loads. Applying an external clock signal to this pin (See Datasheet)", 7 SW (power) "Switch Node Connection to External Inductor. Voltage swing of SW is from a diode voltage drop below ground to VIN.", 8 VIN (power) "Input voltage. Must decouple to GND with a capacitor close to the VIN pin.", 9 BOOST "Boosted Floating Driver Supply for Internal Top Power MOSFET. The (+) terminal of the bootstrap capacitor connects here. This pin swings from a diode voltage drop below INTVCC up to VIN + INTVCC.", 10 INTVCC (power) "Internal 5V Regulator Output. The internal power drivers and control circuits are powered from this voltage. Decouple this pin to GND with a minimum of 1uF low ESR ceramic capacitor.", 11 VOUT (power) "Output Voltage Pin. Output of the LTC3600 voltage regulator. Also the negative input of the error amplifier which is driven to be the same voltage as ISET.", 12 PGOOD (oc) "Output Power Good with Open-Drain Logic. PGOOD is pulled to ground when the PGFB pin is more than 0.645V or less than 0.555V. PGOOD open-drain logic will be disabled if PGFB is tied to INTVCC.", 13 EP (power) "Ground. Return path of internal power MOSFETs. Connect the exposed pad to the negative terminal of the input capacitor and output capacitor."

## LTC3600IMSE#TRPBF
designator U?
1.5 A Synchronous Rail-to-Rail Single Resistor Step-Down Regulator, 12-pin SOP (MSE-12-EDP), -40 to 125 degC, Pb-Free, Tape and Reel; Manufacturer: Linear Technology; PartNumber: LTC3600IMSE#TRPBF; Frequency Adjust Range: 200kHz - 4MHz; Number of Outputs: 1; DatasheetVersion: Rev. C; PackageVersion: Rev. G, 05/2013; PackageReference: MSE-12-EDP; PackageDescription: 12-Pin Plastic MSOP, Exposed Die Pad, Body 4.039 x 3 mm, Pitch 0.65 mm; Supplier 1: Digi-Key; Supplier Part Number 1: LTC3600IMSE#TRPBF-ND; Packing: Tape and Reel; RoHS: TRUE; Mounting Technology: Surface Mount; ComponentLink1Description: Manufacturer URL; ComponentLink1URL: http://www.linear.com/; ComponentLink2Description: Datasheet; ComponentLink2URL: http://cds.linear.com/docs/en/datasheet/3600fc.pdf; ComponentLink3Description: Package Specification; ComponentLink3URL: http://cds.linear.com/docs/en/packaging/05081666_G_MSE12.pdf
footprint LT-MSE-12-EDP_N (SOP, 12-Leads, Body 4.1x3.1mm, Pitch 0.65mm, Thermal Pad 2.95x1.76mm, IPC Medium Density)
footprint LT-MSE-12-EDP_L (SOP, 12-Leads, Body 4.1x3.1mm, Pitch 0.65mm, Thermal Pad 2.95x1.76mm, IPC High Density)
footprint LT-MSE-12-EDP_M (SOP, 12-Leads, Body 4.1x3.1mm, Pitch 0.65mm, Thermal Pad 2.95x1.76mm, IPC Low Density)
pins: 1 ISET (in) "Accurate 50uA Current Source. Positive input to the error amplifier. Connect an external resistor from this pin to signal GND to program the VOUT voltage. Connecting an external capacitor from ISET to ground will soft start (See Datasheet)", 2 ITH "Error Amplifier Output and Switching Regulator Compensation Point. The internal current comparator’s trip threshold is linearly proportional to this voltage, whose normal range is from 0.3V to 2.4V. For externa(See Datasheet)", 3 RT "Switching Frequency Programming Pin. Connect an external resistor (between 200k to 10k) from RT to SGND to program the frequency from 200kHz to 4MHz. Tying the RT pin to INTVCC programs 1MHz operation. Do not float the RT (See Datasheet)", 4 PGFB (in) "Power Good Feedback. Place a resistor divider on VOUT to detect power good level. If PGFB is more than 0.645V, or less than 0.555V, PGOOD will be pulled down. Tie PGFB to INTVCC to disable the PGOOD function. Tying PGFB to a (See Datasheet)", 5 RUN (in) "Run Control Input. Enables chip operation by tying RUN above 1.55V. Tying it below 1V shuts down the switching regulator. Tying it below 0.4V shuts off the entire chip. When tying RUN to more than 12V, place a resistor (100k (See Datasheet)", 6 MODE/SYNC (in) "Operation Mode Select. Tie this pin to INTVCC to force continuous synchronous operation at all output loads. Tying it to GND enables discontinuous mode operation at light loads. Applying an external clock signal to this pin (See Datasheet)", 7 SW (power) "Switch Node Connection to External Inductor. Voltage swing of SW is from a diode voltage drop below ground to VIN.", 8 VIN (power) "Input voltage. Must decouple to GND with a capacitor close to the VIN pin.", 9 BOOST "Boosted Floating Driver Supply for Internal Top Power MOSFET. The (+) terminal of the bootstrap capacitor connects here. This pin swings from a diode voltage drop below INTVCC up to VIN + INTVCC.", 10 INTVCC (power) "Internal 5V Regulator Output. The internal power drivers and control circuits are powered from this voltage. Decouple this pin to GND with a minimum of 1uF low ESR ceramic capacitor.", 11 VOUT (power) "Output Voltage Pin. Output of the LTC3600 voltage regulator. Also the negative input of the error amplifier which is driven to be the same voltage as ISET.", 12 PGOOD (oc) "Output Power Good with Open-Drain Logic. PGOOD is pulled to ground when the PGFB pin is more than 0.645V or less than 0.555V. PGOOD open-drain logic will be disabled if PGFB is tied to INTVCC.", 13 EP (power) "Ground. Return path of internal power MOSFETs. Connect the exposed pad to the negative terminal of the input capacitor and output capacitor."